# EAGLE library part PVG612APBF (library GFE)
PVG612APBF 60V 4A SSR Infineon
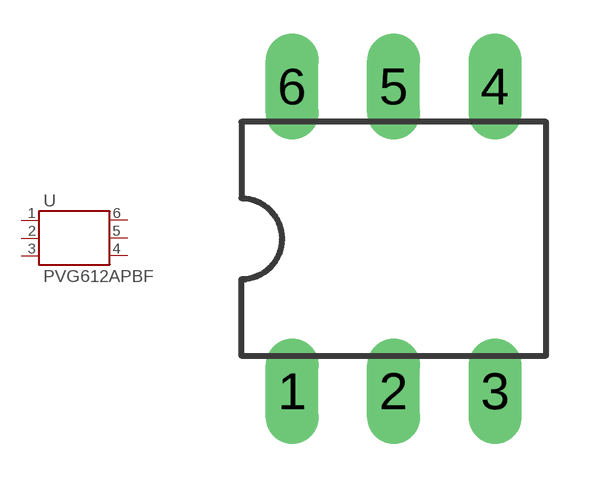
[diagram p2: symbol with the pads of DIL06; footprint DIL06]

Designator prefix U

## PVG612APBF  [DIL06]
1  1  pas
2  2  pas
3  3  pas
4  4  pas
5  5  pas
6  6  pas

## Footprint DIL06 (pad centres in mm)
Dual In Line Package
drill 0.813 long: 1 -2.54,-3.81; 2 0,-3.81; 3 2.54,-3.81; 4 2.54,3.81; 5 0,3.81; 6 -2.54,3.81